# EAGLE library part TLV5619 (library QuantumOptics)
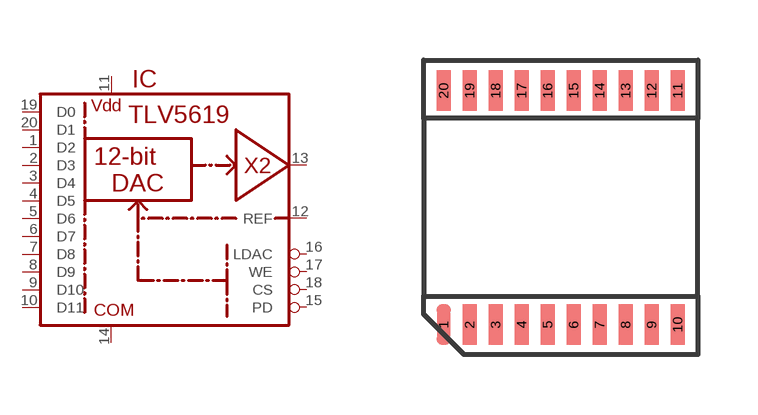
[diagram p10: symbol with the pads of TSSOP-20; footprint TSSOP-20]

Designator prefix IC

## TLV5619CPW  [TSSOP-20]
1  D2  in
2  D3  in
3  D4  in
4  D5  in
5  D6  in
6  D7  in
7  D8  in
8  D9  in
9  D10  in
10  D11  in
11  VDD
12  REF  in
13  OUT  out
14  COM
15  PD  in
16  LDAC  in
17  WE  in
18  CS  in
19  D0  in
20  D1  in

## Footprint TSSOP-20 (pad centres in mm)
TSSOP-20, pins 0.65mm c-c spacing, nominal 6.4mm rows.
smd 0.356 x 1.016: 1 0,-5.85; 2 0.65,-5.85; 3 1.3,-5.85; 4 1.95,-5.85; 5 2.6,-5.85; 6 3.25,-5.85; 7 3.9,-5.85; 8 4.55,-5.85; 9 5.2,-5.85; 10 5.85,-5.85; 11 5.85,0; 12 5.2,0; 13 4.55,0; 14 3.9,0; 15 3.25,0; 16 2.6,0; 17 1.95,0; 18 1.3,0; 19 0.65,0; 20 0,0